# Altium schematic symbol library TINYMODULE-V3.SCHLIB: 37 symbols
Pins are listed as number, name and electrical type; pins without a type are passive.

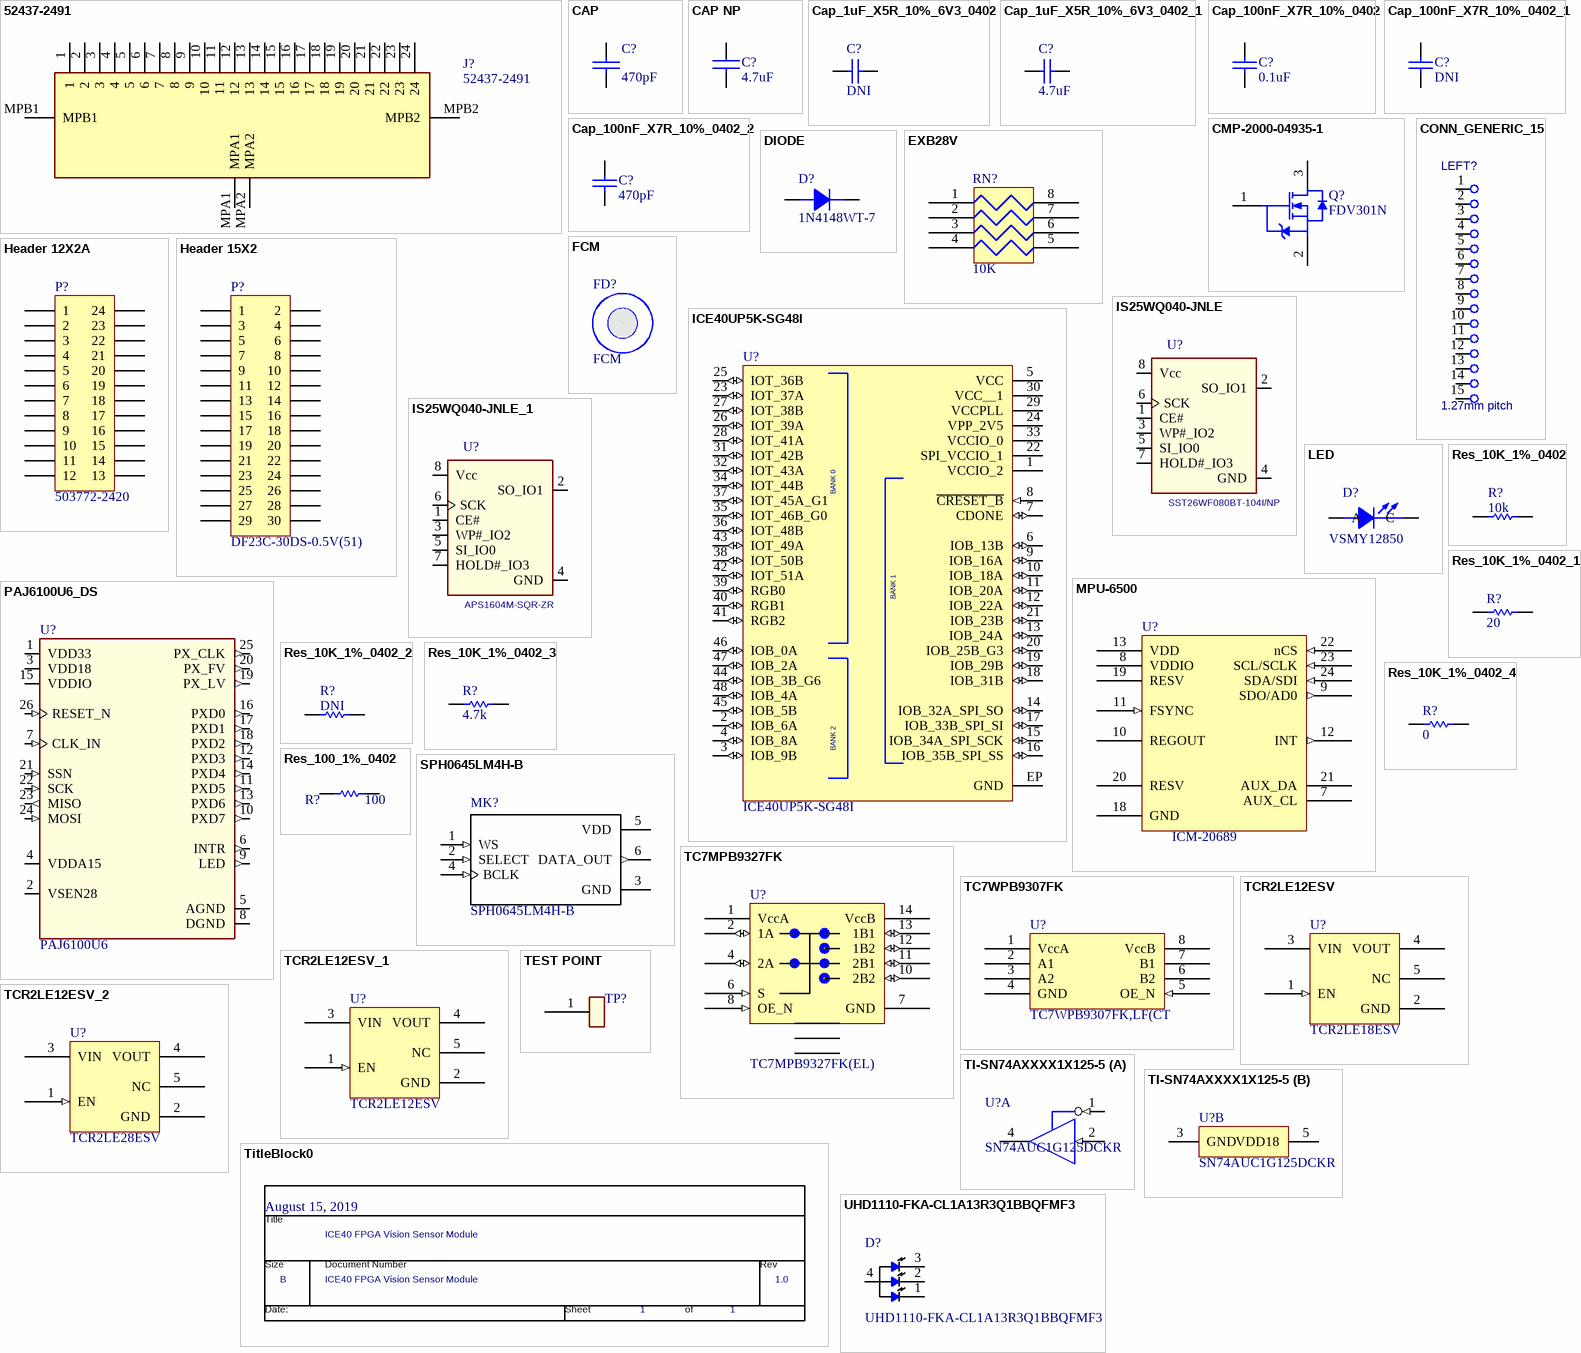
[diagram p0: symbols 52437-2491 to UHD1110-FKA-CL1A13R3Q1BBQFMF3]

## 52437-2491
designator J?
Connector; Manufacturer_Name: Molex; Datasheet Link: https://www.molex.com/pdm_docs/sd/524372491_sd.pdf; Height: 2mm; Manufacturer Part Number: 52437-2491; Arrow Part Number: 52437-2491; Mouser Part Number: 538-52437-2491; Mouser Price/Stock: https://www.mouser.com/Search/Refine.aspx?Keyword=538-52437-2491
footprint 524372491
pins: 1, 2, 3, 4, 5, 6, 7, 8, 9, 10, 11, 12, 13, 14, 15, 16, 17, 18, 19, 20, 21, 22, 23, 24, MPA1, MPA2, MPB1, MPB2

## CAP
designator C?, comment 470pF
CAP CER 470PF 50V X7R 0402; Manufacturer Part Number: GRM155R71H471KA01D; Manufacturer: Murata Electronics; Part #: E-CAP-023; Digi-Key Part Number: 490-1300-1-ND; Price 100: 0.03250; Emcraft #: E-CAP-023; Price 1000: 0.0066; Price 5000: 0.0055; Package: 0402
footprint CAPC1005N
footprint CAPC1608N
footprint CAPC2012N
footprint CAPC3216N
footprint CAPC1005X60N
footprint CAPC100X50X60L25N
pins: 1, 2

## CAP NP
designator C?, comment 4.7uF
CAP CER 4.7UF 6.3V X5R 0402; Manufacturer Part Number: GRM155R60J475ME87J; Manufacturer: Murata Electronics; Part #: S-CAP-024; Digi-Key Part Number: 490-18211-1-ND; Package: 0402
footprint CAPC1608N
footprint CAPC1608X95N
footprint C0603
footprint CAPC100X50X60L25N
pins: 1, 2

## Cap_1uF_X5R_10%_6V3_0402
designator C?, comment DNI
CAP CER 4.7UF 10V X5R 0402; Part #: E-CAP-042; Package: 0402
footprint C0402
footprint CAPC100X50X60L25N
pins: 1, 2

## Cap_1uF_X5R_10%_6V3_0402_1
designator C?, comment 4.7uF
CAP CER 4.7UF 6.3V X5R 0402; Manufacturer Part Number: GRM155R60J475ME87J; Manufacturer: Murata Electronics; Part #: E-CAP-042; Digi-Key Part Number: 490-18211-1-ND; Package: 0402
footprint C0402
footprint CAPC100X50X60L25N
pins: 1, 2

## Cap_100nF_X7R_10%_0402
designator C?, comment 0.1uF
CAP CER 0.1UF 10V X5R 0402; Manufacturer Part Number: GRM155R61A104KA01J; Manufacturer: Murata Electronics; Part #: E-CAP-003; Digi-Key Part Number: 490-6297-1-ND; Package: 0402
footprint C0402
footprint CAPC100X50X60L25N
pins: 1, 2

## Cap_100nF_X7R_10%_0402_1
designator C?, comment DNI
CAP CER 0.1UF 6.3V X5R 0402; Part #: E-CAP-003; Package: 0402
footprint C0402
footprint CAPC100X50X60L25N
pins: 1, 2

## Cap_100nF_X7R_10%_0402_2
designator C?, comment 470pF
CAP CER 470PF 50V X7R 0402; Manufacturer Part Number: GRM155R71H471KA01D; Manufacturer: Murata Electronics; Part #: E-CAP-003; Digi-Key Part Number: 490-1300-1-ND; Package: 0402
footprint C0402
footprint CAPC100X50X60L25N
pins: 1, 2

## CMP-2000-04935-1
designator Q?, comment FDV301N
MOSFET N-CH 25V 220MA SOT-23; Manufacturer: ON Semiconductor; Rds(on) Test Voltage Vgs: 2.7V; Threshold Voltage Vgs Typ: 850mV; Reel Quantity: 3000; Voltage Vgs Rds on Measurement: 4.5V; Power Dissipation Pd: 350mW; Transistor Polarity: NChannel; No. of Transistors: 1; Package Version: Rev. 12, 03/2016; Voltage Vgs th Max: 1.5V; ESD HBM: 6kV; Pulse Current Idm: 500mA; Current Temperature: 25degC; On Resistance Rds(on): 5ohm; External Depth: 2.5mm; SMD Marking: 301; No. of Pins: 3; External Width: 3.05mm; SVHC: NoSVHC(19-Dec-2012); External Length / Height: 1.12mm; Termination Type: SMD; Voltage Vds Typ: 25V; Transistor Case Style: SOT-23; Continuous Drain Current Id: 220mA; Package Reference: SOT23-3; Package URL: http://www.fairchildsemi.com/dwg/MA/MA03D.pdf; Voltage Vgs Max: 850mV; Drain Source Voltage Vds: 25V; Operating Temperature Max: 150degC; Package Description: 3-Pin Small Outline Transistor, Body 2.92 x 1.325 mm, Pitch 0.95 mm; Operating Temperature Min: -55degC; Datasheet Version: Jun-09; Tape Width: 8mm; Full Power Rating Temperature: 25degC; Manufacturer Part Number: FDV301N; Package / Case: SOT-23; Digi-Key Part Number: FDV301NCT-ND; Current Id Max: 220mA; Operating Temperature Range: -55degCto+150degC
footprint FAIR-SOT23-3_V (SOT23, 3-Leads, Body 2.92x1.3mm, Pitch 0.95mm)
pins: 1 G, 2 S, 3 D

## CONN_GENERIC_15
designator LEFT?  value 1.27mm pitch  (hidden comment: CONN_GENERIC_15)
footprint CONN_GENERIC_1.27mm_15cont
pins: 1, 2, 3, 4, 5, 6, 7, 8, 9, 10, 11, 12, 13, 14, 15

## DIODE
designator D?, comment 1N4148WT-7
DIODE GEN PURP 80V 125MA SOD523; Manufacturer: Diodes Incorporated; Digi-Key Part Number: 1N4148WTDICT-ND; Manufacturer Part Number: 1N4148WT-7; Package: SOD523
footprint SOD523F (SOD-523F; 2 Leads; Body 1.3 x 0.9 mm, (LxW))
pins: A, K

## EXB28V
designator RN?, comment 10K
RES ARRAY 4 RES 10K OHM 0804; Manufacturer: CTS Resistor Products; Manufacturer Part Number: 741C083103JP; Digi-Key Part Number: 741C083103JPCT-ND; Package: 0804
footprint RESCAXS50P100X200X45-8NA (2 Side, Convex)
pins: 1, 2, 3, 4, 5, 6, 7, 8

## FCM
designator FD?
Fiducial marker; Part #: NA; Notes: DNI; ManType: NA
footprint FID100X200N
pins: 1

## Header 12X2A
designator P?, comment 503772-2420
CONN RCPT 24POS SMD GOLD; Manufacturer: Molex; Manufacturer Part Number: 5037722420; Number of Positions: 24; Digi-Key Part Number: WM25543CT-ND; Mount: Surface Mount; ComponentLink1URL: http://portal.fciconnect.com/Comergent//fci/drawing/10117319.pdf?src-supplier=Digi-Key; ComponentLink1Description: http://portal.fciconnect.com/Comergent//fci/drawing/10117319.pdf?src-supplier=Digi-Key
signal-integrity model Connector
footprint 503772-2410
pins: 1, 2, 3, 4, 5, 6, 7, 8, 9, 10, 11, 12, 13, 14, 15, 16, 17, 18, 19, 20, 21, 22, 23, 24

## Header 15X2
designator P?, comment DF23C-30DS-0.5V(51)
Header, 15-Pin, Dual row; Manufacturer: Hirose; Number of Contacts: 30; Current Rating: 300mA; Voltage Rating: 50V; Connector Type: Receptacle,PCB; Insulation Resistance: 500MR; Gender: Receptacle; Pitch: 0.5mm; Row Spacing: 6mm; Mated Stacking Heights: 1.5mm; LatestRevisionDate: 17-Jul-2002; LatestRevisionNote: Re-released for DXP Platform.; Publisher: Altium Limited; Supplier 1: Mouser; Supplier Part Number 1: 798-DF23C30DS05V51; Manufacturer Part Number: DF23C-30DS-0.5V(51); Stock 1: 2289; Pricing 1: 1=0.96, 10=0.792, 50=0.792, 100=0.727, 1000=0.528, 10000=0.43 (USD); Mount: Surface Mount; Contact Plating: Gold; Contact Material: Bronze,Copper Alloy; Housing Color: Black; Housing Material: Polymer; Min Operating Temperature: -35°C; Max Operating Temperature: 85°C; Number of Rows: 2; Termination: SMD/SMT; Package Quantity: 1; Packaging: Tape and Reel; Number of Positions: 30; Orientation: Straight; REACH SVHC: No SVHC; Lead Free: Lead Free; Flammability Rating: UL94 V-0; ComponentLink1URL: https://www.hirose.com/product/en/download_file/key_name/DF23/category/Catalog/doc_file_id/49660/?file_category_id=4&item_id=246&is_series=1&src-supplier=Digi-Key; ComponentLink1Description: https://www.hirose.com/product/en/download_file/key_name/DF23/category/Catalog/doc_file_id/49660/?file_category_id=4&item_id=246&is_series=1&src-supplier=Digi-Key; ComponentLink2URL: http://www.farnell.com/datasheets/1910197.pdf?src-supplier=Element14; ComponentLink2Description: http://www.farnell.com/datasheets/1910197.pdf?src-supplier=Element14; ComponentLink3URL: http://www.hirose.co.jp/cataloge_hp/e68801060.pdf?src-supplier=Avnet+Europe; ComponentLink3Description: http://www.hirose.co.jp/cataloge_hp/e68801060.pdf?src-supplier=Avnet+Europe; ComponentLink4URL: http://www.mouser.com/ds/2/185/DF23_catalog-939018.pdf?src-supplier=Mouser; ComponentLink4Description: http://www.mouser.com/ds/2/185/DF23_catalog-939018.pdf?src-supplier=Mouser; ComponentLink5URL: https://www.hirose.com/product/en/download_file/key_name/DF23C-30DS-0.5V%2851%29/category/Specification%20Sheet/doc_file_id/47546/?file_category_id=9&item_id=06880302851&is_series=&src-supplier=Digi-Key; ComponentLink5Description: https://www.hirose.com/product/en/download_file/key_name/DF23C-30DS-0.5V%2851%29/category/Specification%20Sheet/doc_file_id/47546/?file_category_id=9&item_id=06880302851&is_series=&src-supplier=Digi-Key; ComponentLink6URL: http://www.hirose.co.jp/cataloge_hp/e68801060.pdf?src-supplier=Future+Electronics; ComponentLink6Description: http://www.hirose.co.jp/cataloge_hp/e68801060.pdf?src-supplier=Future+Electronics; ComponentLink7URL: http://www.hirose.co.jp/cataloge_hp/e68801060.pdf?src-supplier=Avnet; ComponentLink7Description: http://www.hirose.co.jp/cataloge_hp/e68801060.pdf?src-supplier=Avnet
signal-integrity model Connector
footprint DF23C-30DS-0.5V
pins: 1, 2, 3, 4, 5, 6, 7, 8, 9, 10, 11, 12, 13, 14, 15, 16, 17, 18, 19, 20, 21, 22, 23, 24, 25, 26, 27, 28, 29, 30

## ICE40UP5K-SG48I
designator U?
IC FPGA 39 I/O 48QFN; Manufacturer: Lattice Semiconductor; Package: QFN-48 Lattice Semiconductor; Digi-Key Part Number: 220-2212-1-ND; Manufacturer Part Number: ICE40UP5K-SG48I
footprint SLAB-QFN48-7X7-MD (QFN, 48-Leads, Body 7.00x7.00mm, Pitch 0.50mm, Thermal Pad 4.70x4.70mm, IPC Medium Density)
pins: 1 VCCIO_2 (power), 2 IOB_6A (io), 3 IOB_9B (io), 4 IOB_8A (io), 5 VCC (power), 6 IOB_13B (io), 7 CDONE (io), 8 ~{CRESET_B} (in), 9 IOB_16A (io), 10 IOB_18A (io), 11 IOB_20A (io), 12 IOB_22A (io), 13 IOB_24A (io), 14 IOB_32A_SPI_SO (io), 15 IOB_34A_SPI_SCK (io), 16 IOB_35B_SPI_SS (io), 17 IOB_33B_SPI_SI (io), 18 IOB_31B (io), 19 IOB_29B (io), 20 IOB_25B_G3 (io), 21 IOB_23B (io), 22 SPI_VCCIO_1 (power), 23 IOT_37A (io), 24 VPP_2V5 (power), 25 IOT_36B (io), 26 IOT_39A (io), 27 IOT_38B (io), 28 IOT_41A (io), 29 VCCPLL (power), 30 VCC__1 (power), 31 IOT_42B (io), 32 IOT_43A (io), 33 VCCIO_0 (power), 34 IOT_44B (io), 35 IOT_46B_G0 (io), 36 IOT_48B (io), 37 IOT_45A_G1 (io), 38 IOT_50B (io), 39 RGB0 (io), 40 RGB1 (io), 41 RGB2 (io), 42 IOT_51A (io), 43 IOT_49A (io), 44 IOB_3B_G6 (io), 45 IOB_5B (io), 46 IOB_0A (io), 47 IOB_2A (io), 48 IOB_4A (io), EP GND (power)
text: BANK 0; BANK 1; BANK 2

## IS25WQ040-JNLE
designator U?, comment SST26WF080BT-104I/NP
IC FLASH 8M SPI 104MHZ 8USON; Manufacturer: Microchip Technology; Digi-Key Part Number: SST26WF080BT-104I/NPCT-ND; Manufacturer Part Number: SST26WF080BT-104I/NP
footprint SON50P300X200X60-9N
pins: 1 CE#, 2 SO_IO1, 3 WP#_IO2, 4 GND, 5 SI_IO0, 6 SCK, 7 HOLD#_IO3, 8 Vcc

## IS25WQ040-JNLE_1
designator U?, comment APS1604M-SQR-ZR
qSPI SRAM; Manufacturer: APMEMORY
footprint SON50P300X200X60-9N
pins: 1 CE#, 2 SO_IO1, 3 WP#_IO2, 4 GND, 5 SI_IO0, 6 SCK, 7 HOLD#_IO3, 8 Vcc

## LED
designator D?, comment VSMY12850
EMITTER IR 850NM 70MA 3.20MM SMD; Manufacturer: OSRAM Opto Semiconductors Inc.; ManType: SFH 4253-Z; Viewing Angle: 80°; Forward Current: 20mA; Forward Voltage: 1.4V; Rise Time: 10ns; Touchscreen: Infrared (IR); Digi-Key Part Number: VSMY12850CT-ND; Part #: *; Supplier 1: Avnet; Manufacturer Part Number: VSMY12850; Stock 1: 0; Pricing 1: 1=0.404 (USD); Mount: Surface Mount; Case/Package: 1206; Case Code (Metric): 3216; Case Code (Imperial): 1206; Min Operating Temperature: -40°C; Max Operating Temperature: 85°C; Packaging: Cut Tape; Wavelength: 850nm; Orientation: Top View; REACH SVHC: Unknown; Lead Free: Lead Free
footprint vsmy12850
pins: A, C

## MPU-6500
designator U?, comment ICM-20689
IMU ACCEL/GYRO/TEMP I2C/SPI QFN; Manufacturer: TDK InvenSense; Digi-Key Part Number: 1428-1059-1-ND; Manufacturer Part Number: ICM-20689
footprint QFN50P400X400X95-25N
pins: 1 NC hidden, 2 NC hidden, 3 NC hidden, 4 NC hidden, 5 NC hidden, 6 NC hidden, 7 AUX_CL, 8 VDDIO (power), 9 SDO/AD0 (out), 10 REGOUT (power), 11 FSYNC (in), 12 INT (out), 13 VDD (power), 14 NC hidden, 15 NC hidden, 16 NC hidden, 17 NC hidden, 18 GND, 19 RESV, 20 RESV, 21 AUX_DA, 22 nCS (in), 23 SCL/SCLK (in), 24 SDA/SDI (in)

## PAJ6100U6_DS
designator U?, comment PAJ6100U6
Camera Module; Manufacturer: PixArt Imaging Inc; Manufacturer Part Number: PAJ6100U6
footprint lga26
pins: 1 VDD33 (power), 2 VSEN28 (power), 3 VDD18 (power), 4 VDDA15 (power), 5 AGND (power), 6 INTR (out), 7 CLK_IN (in), 8 DGND (power), 9 LED (out), 10 PXD7 (out), 11 PXD5 (out), 12 PXD3 (out), 13 PXD6 (out), 14 PXD4 (out), 15 VDDIO (power), 16 PXD0 (out), 17 PXD1 (out), 18 PXD2 (out), 19 PX_LV (out), 20 PX_FV (out), 21 SSN (in), 22 SCK (in), 23 MISO (out), 24 MOSI (in), 25 PX_CLK (out), 26 RESET_N (in)

## Res_10K_1%_0402
designator R?, comment 10k
RES 10K OHM 1/16W 5% 0402; Manufacturer Part Number: RMCF0402JT10K0; Manufacturer: STACKPOLE; Part #: E-RES-003; Package: 0402; Digi-Key Part Number: RMCF0402JT10K0CT-ND
footprint R0402
footprint RESC100X50X40L25N
pins: 1, 2

## Res_10K_1%_0402_1
designator R?, comment 20
RES 20 OHM 5% 1/16W 0402; Manufacturer Part Number: RMCF0402JT20R0; Manufacturer: STACKPOLE; Part #: E-RES-003; Package: 0402; Digi-Key Part Number: RMCF0402JT20R0CT-ND
footprint RESC1608X55N (Chip Resistor, Body 1.6x0.8mm, EIA 0603, IPC Medium Density)
footprint RESC1608X55N (Chip Resistor, Body 1.6x0.8mm, EIA 0603, IPC Medium Density)
pins: 1, 2

## Res_10K_1%_0402_2
designator R?, comment DNI
RES 10K OHM 1/16W 5% 0402; Part #: E-RES-003; Package: 0402
footprint R0402
footprint RESC100X50X40L25N
pins: 1, 2

## Res_10K_1%_0402_3
designator R?, comment 4.7k
RES SMD 4.7K OHM 5% 1/16W 0402; Manufacturer Part Number: RC0402JR-074K7L; Manufacturer: Yageo; Part #: E-RES-003; Package: 0402; Digi-Key Part Number: 311-4.7KJRCT-ND
footprint R0402
footprint RESC100X50X40L25N
pins: 1, 2

## Res_10K_1%_0402_4
designator R?, comment 0
RES SMD 0 OHM JUMPER 1/16W 0402; Manufacturer Part Number: RC0402JR-070RL; Manufacturer: Yageo; Part #: E-RES-003; Package: 0402; Digi-Key Part Number: 311-0.0JRCT-ND
footprint R0402
footprint RESC100X50X40L25N
pins: 1, 2

## Res_100_1%_0402
designator R?, comment 100
RES 100 OHM 5% 1/16W 0402; Part #: E-RES-002; Manufacturer: STACKPOLE; Manufacturer Part Number: RMCF0402JT100R; Package: 0402; Digi-Key Part Number: RMCF0402JT100RCT-ND
footprint R0402
footprint RESC100X50X40L25N
pins: 1, 2

## SPH0645LM4H-B
designator MK?
CRAWFORD MIC DGT I2S BOTTOM PORT; Manufacturer: Knowles; Package: SIP-7 Bourns; Manufacturer Part Number: SPH0645LM4H-B; Digi-Key_Purchase_URL: https://www.digikey.com/product-detail/en/knowles/SPH0645LM4H-B/423-1405-1-ND/5332432?utm_source=snapeda&utm_medium=aggregator&utm_campaign=symbol; Digi-Key Part Number: 423-1405-1-ND; SnapEDA_Link: https://www.snapeda.com/parts/SPH0645LM4H-B/Knowles/view-part/?ref=snap; Value: *
footprint *MIC_SPH0645LM4H-B
footprint Knowles_SPH0645LM4H-B_0
pins: 1 WS (in), 2 SELECT (in), 3 GND (power), 4 BCLK (in), 5 VDD (power), 6 DATA_OUT (out)

## TC7MPB9327FK
designator U?, comment TC7MPB9327FK(EL)
X34 DUAL-SUPPLY LEVEL SHIFT SPDT; Manufacturer: Toshiba Semiconductor and Storage; Digi-Key Part Number: TC7MPB9327FK(EL)CT-ND; Manufacturer Part Number: TC7MPB9327FK(EL)
footprint VSSOP14-P-0030-0.50
pins: 1 VccA (power), 2 1A (io), 3 NC, 4 2A (io), 5 NC, 6 S (in), 7 GND (power), 8 OE_N (in), 9 NC, 10 2B2 (io), 11 2B1 (io), 12 1B2 (io), 13 1B1 (io), 14 VccB (power)

## TC7WPB9307FK
designator U?, comment TC7WPB9307FK,LF(CT
X34 GENERAL-PURPOSE BUS SWITCH L; Manufacturer: Toshiba Semiconductor and Storage; Digi-Key Part Number: TC7WPB9307FKLF(CTCT-ND; Manufacturer Part Number: TC7WPB9307FK,LF(CT
footprint SSOP8-P-0.50A
pins: 1 VccA (power), 2 A1, 3 A2, 4 GND (power), 5 OE_N (in), 6 B2, 7 B1, 8 VccB (power)

## TCR2LE12ESV
designator U?, comment TCR2LE18ESV
Manufacturer: Toshiba
footprint SOT-553
pins: 1 EN (in), 2 GND (power), 3 VIN (power), 4 VOUT (power), 5 NC

## TCR2LE12ESV_1
designator U?, comment TCR2LE12ESV
Manufacturer: Toshiba
footprint SOT-553
pins: 1 EN (in), 2 GND (power), 3 VIN (power), 4 VOUT (power), 5 NC

## TCR2LE12ESV_2
designator U?, comment TCR2LE28ESV
Manufacturer: Toshiba
footprint SOT-553
pins: 1 EN (in), 2 GND (power), 3 VIN (power), 4 VOUT (power), 5 NC

## TEST POINT
designator TP?  (value not drawn)
footprint TP-R20
pins: 1

## TI-SN74AXXXX1X125-5
designator U?, comment SN74AUC1G125DCKR
IC BUF NON-INVERT 2.7 V SC70-5; Manufacturer: Texas Instruments; Technology Family: AUC; Schmitt Trigger: No; Bits(#): 1; Sub-Family: Non-Inverting Buffer/Driver; VCC(Max)(V): 2.7; Voltage(Nom)(V): 0.8,1.2,1.5,1.8,2.5; 3-State Output: Yes; F @ Nom Voltage(Max)(Mhz): 250; ICC @ Nom Voltage(Max)(mA): 0.01; VCC(Min)(V): 0.8; Input Type: CMOS; Output Drive (IOL/IOH)(Max)(mA): 9/-9; Rating: Catalog; Logic: True; tpd @ Nom Voltage(Max)(ns): 4.7,3.6,2.3,1.5,1.3; Digi-Key Part Number: 296-12658-1-ND; PackageReference: DCK0005A; Manufacturer Part Number: SN74AUC1G125DCKR; Operating Temperature Range(C): -40 to 85; Output Type: CMOS
footprint DCK0005A_M (SOT23, 5-Leads, Body 2.15x1.4mm, Pitch 0.65mm, IPC Low Density)
footprint DCK0005A_N (SOT23, 5-Leads, Body 2.15x1.4mm, Pitch 0.65mm, IPC Medium Density)
footprint DCK0005A_L (SOT23, 5-Leads, Body 2.15x1.4mm, Pitch 0.65mm, IPC High Density)
part A pins: 1 ~{OE} (in), 2 A (in), 4 Y (hiz)
part B pins: 3 GND (power), 5 VDD18 (power)

## TitleBlock0
designator *?  Page Create Date: August 15, 2019  Page Count: 1  Page Size: B  Title: ICE40 FPGA Vision Sensor Module  RevCode: 1.0  (hidden comment: TitleBlock0)  (graphical)
Page Number: 1; Doc: ICE40 FPGA Vision Sensor Module
text: Title; Size; Document Number; Rev; Date:; Sheet; of

## UHD1110-FKA-CL1A13R3Q1BBQFMF3
designator D?
HB, SMD, RGB; Manufacturer: Cree Inc.; Price: None; Manufacturer Part Number: UHD1110-FKA-CL1A13R3Q1BBQFMF3; Digi-Key Part Number: UHD1110-FKA-CL1A13R3Q1BBQFMF3CT-ND; Package: 0404 Cree Inc.; Value: *
footprint UHD1110-FKA
pins: 1 BLUE, 2 GREEN, 3 RED, 4 ANODE